# EAGLE library part SPM0405H (library FaBo-Sensor)
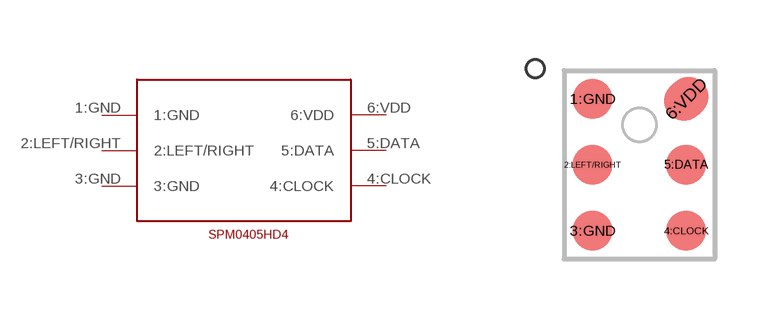
[diagram p21: symbol with the pads of SPM4050; footprint SPM4050]

Designator prefix -

## SPM0405H  [SPM4050]
1:GND  1:GND
2:LEFT/RIGHT  2:LEFT/RIGHT
3:GND  3:GND
4:CLOCK  4:CLOCK
5:DATA  5:DATA
6:VDD  6:VDD

## Footprint SPM4050 (pad centres in mm)
smd 1 x 1: 1:GND -1.169,1.651; 2:LEFT/RIGHT -1.169,0; 3:GND -1.169,-1.651; 4:CLOCK 1.169,-1.651; 5:DATA 1.169,0
smd 1.15 x 1 rotated 45: 6:VDD 1.169,1.651